# Altium schematic symbol library U_DS2433_SOIC.SchLib: 1 symbol
Pins are listed as number, name and electrical type; pins without a type are passive.

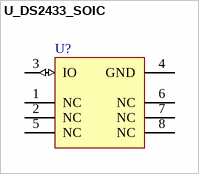
[diagram p0: symbol U_DS2433_SOIC]

## U_DS2433_SOIC
designator U?
pins: 1 NC, 2 NC, 3 IO (io), 4 GND (power), 5 NC, 6 NC, 7 NC, 8 NC